# Altium schematic symbol library TLC555CDR.SchLib: 1 symbol
Pins are listed as number, name and electrical type; pins without a type are passive.

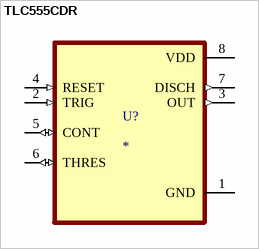
[diagram p0: symbol TLC555CDR]

## TLC555CDR
designator U?
2.1-MHz, 250-ÂµA, Low-Power Timer; MF: Texas Instruments; MP: TLC555CDR; SnapEDA_Link: https://www.snapeda.com/parts/TLC555CDR/Texas+Instruments/view-part/?ref=snap; Package: SOIC-8 Texas Instruments; Value: *; Check_prices: https://www.snapeda.com/parts/TLC555CDR/Texas+Instruments/view-part/?ref=eda
footprint SOIC127P599X175-8N
pins: 1 GND (power), 2 TRIG (in), 3 OUT (out), 4 RESET (in), 5 CONT (io), 6 THRES (io), 7 DISCH (out), 8 VDD (power)